# Altium footprint library PS2.PcbLib: 1 footprints
Each footprint in its own frame and in the unit in brackets; x right, y up, seen from the top. Pads: shape width x height; smd on the part's side, far side on the other; paste and mask are expansions set on the pad; w line width, h text height; cw(c..) or ccw(c..) is an arc to the next point about the centre after c.
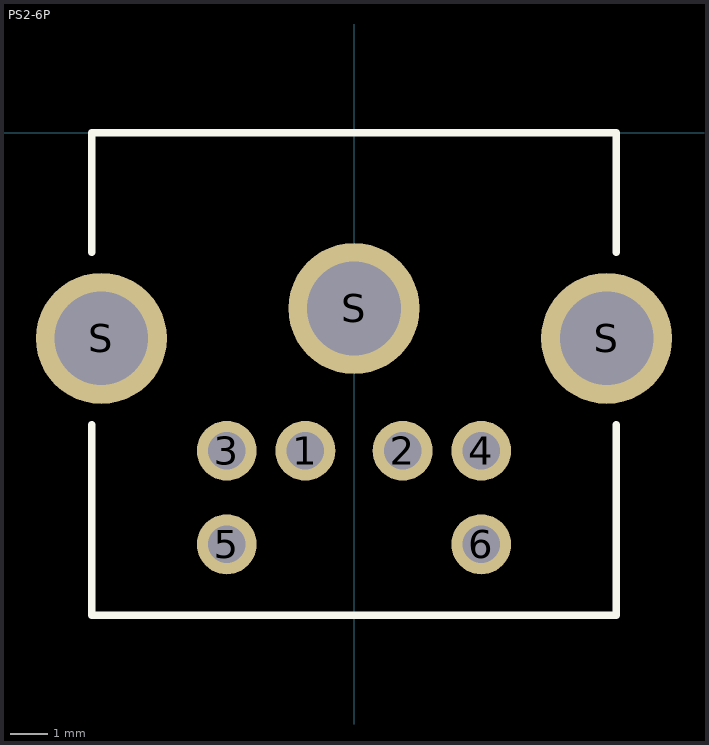
[diagram p0: the footprint, top view; thin cyan lines are the x and y axes]

## PS2-6P [mm] "PS2 Socket, 6 Pin, Through Hole"
height 13
pads (9):
  round 1.6 hole 1: 1(-1.3,-8.5) 2(1.3,-8.5) 3(-3.4,-8.5) 4(3.4,-8.5) 5(-3.4,-11) 6(3.4,-11)
  round 3.5 hole 2.5: S(-6.75,-5.5) S(0,-4.7) S(6.75,-5.5)
Top Overlay:
  lines w0.2: -7,-7.8 -7,-12.9 7,-12.9 7,-7.8 ; -7,-3.2 -7,0 7,0 7,-3.2
3D body: height 13, standoff 0, extent -7,-12.9 7,0